# Altium schematic symbol library 2020-11-26_03-08-22.SchLib: 2 symbols
Pins are listed as number, name and electrical type; pins without a type are passive.

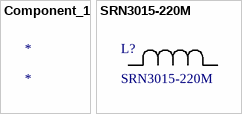
[diagram p0: symbols Component_1 to SRN3015-220M]

## Component_1
designator *

## SRN3015-220M
designator L?
No Description Available; Vendor: Bourns Electronics; Built_By: EMA_UL_Team; SourceLibrary: Bourns_2010-01-01_IND_SRNxxxx; Type: DEV; Manufacturer_Part_Number: SRN3015-220M; Copyright: Copyright (C) 2018 Accelerated Designs. All rights reserved; RefDes: RefDes
footprint IND_BOURNS_SRN3015
pins: 1, 2